# Altium schematic symbol library mySCH.SchLib: 9 symbols
Pins are listed as number, name and electrical type; pins without a type are passive.

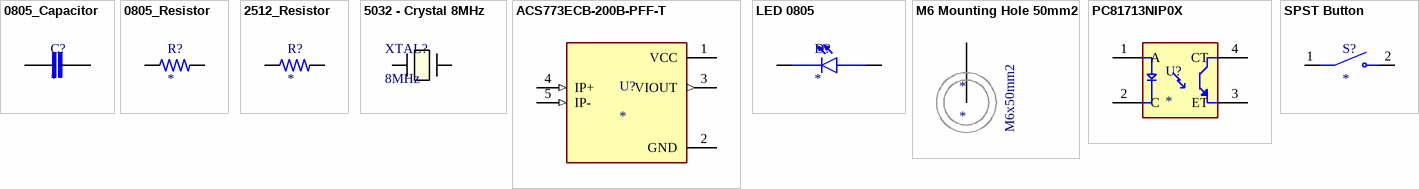
[diagram p0: symbols 0805_Capacitor to SPST Button]

## 0805_Capacitor
designator C?
MP: LD051A121KAB2A; MF: AVX; SnapEDA_Link: https://www.snapeda.com/parts/LD051A121KAB2A/AVX/view-part/?ref=snap; Package: 0805 AVX; Check_prices: https://www.snapeda.com/parts/LD051A121KAB2A/AVX/view-part/?ref=eda; Purchase-URL: https://pricing.snapeda.com/search/part/LD051A121KAB2A/?ref=eda; Price: None; Value: *; Availability: In Stock
footprint 0805
pins: 1, 2

## 0805_Resistor
designator R?
Power_Rating: .25 W; MP: 2-2176053-0; Tolerance: 1%; Resistance: .33; MF: TE Connectivity; Price: None; Availability: In Stock; EU_RoHS_Compliance: Compliant with Exemptions; Package: 0805; Value: *; SnapEDA_Link: https://www.snapeda.com/parts/2-2176053-0/TE+Connectivity/view-part/?ref=snap; Check_prices: https://www.snapeda.com/parts/2-2176053-0/TE+Connectivity/view-part/?ref=eda
footprint 0805
pins: 1, 2

## 2512_Resistor
designator R?
Power_Rating: .25 W; MP: 2-2176053-0; Tolerance: 1%; Resistance: .33; MF: TE Connectivity; Price: None; Availability: In Stock; EU_RoHS_Compliance: Compliant with Exemptions; Package: 0805; Value: *; SnapEDA_Link: https://www.snapeda.com/parts/2-2176053-0/TE+Connectivity/view-part/?ref=snap; Check_prices: https://www.snapeda.com/parts/2-2176053-0/TE+Connectivity/view-part/?ref=eda
footprint 2512
pins: 1, 2

## 5032 - Crystal 8MHz
designator XTAL?, comment 8MHz
5032; Mfr_Name: Epson; Manufacturer_Part_Number: SC32A-12.5PF20PPM; Copyright: Copyright (C) 2024 Ultra Librarian. All rights reserved.; RefDes: RefDes; Type: DEV
footprint Crystal 8MHz (5032)
pins: 1, 2

## ACS773ECB-200B-PFF-T
designator U?
Current Sensor 100A 1 Channel Hall Effect, Open Loop Bidirectional 5-CB Formed Leads, PFF; MP: ACS758LCB-100B-PFF-T; MF: Allegro; Price: None; Availability: In Stock; Package: 5-CB-5 Allegro MicroSystems LLC; Value: *; SnapEDA_Link: https://www.snapeda.com/parts/ACS758LCB-100B-PFF-T/Allegro+Industries/view-part/?ref=snap; Purchase-URL: https://pricing.snapeda.com/search/part/ACS758LCB-100B-PFF-T/?ref=eda; Check_prices: https://www.snapeda.com/parts/ACS758LCB-100B-PFF-T/Allegro+Industries/view-part/?ref=eda
footprint ACS773ECB-200B-PFF-T
pins: 1 VCC (power), 2 GND (power), 3 VIOUT (out), 4 IP+ (in), 5 IP- (in)

## LED 0805
designator D?
LED Uni-Color Green 4-Pin Chip 0805 T/R; MP: 597-3305-607F; Availability: Unavailable; Value: *; Price: None; Package: None
footprint 0805
pins: 1, 2

## M6 Mounting Hole 50mm2
designator *
footprint M6 - Mounting Hole 50mm2
pins: 1 M3
text: M6x50mm2

## PC81713NIP0X
designator U?
Optoisolator Transistor Output 5000Vrms 1 Channel 4-SMD; MP: PC81713NIP0X; MF: SHARP/Socle Technology; Purchase-URL: https://pricing.snapeda.com/search/part/PC81713NIP0X/?ref=eda; SnapEDA_Link: https://www.snapeda.com/parts/PC81713NIP0X/SHARP%252FSocle+Technology/view-part/?ref=snap; Package: SMD-4 SOCLE Technology; Availability: In Stock; Check_prices: https://www.snapeda.com/parts/PC81713NIP0X/SHARP%252FSocle+Technology/view-part/?ref=eda; Value: *; Price: None
footprint PC817_SMD-4
pins: 1 A, 2 C, 3 ET, 4 CT

## SPST Button
designator S?
3mmX6mm; MP: B3U-1000P; Price: None; Availability: Unavailable; Value: *; Package: None
footprint SPST Button (3mmx6mm)
pins: 1, 2